# Altium schematic symbol library cm3588.SchLib: 1 symbol
Pins are listed as number, name and electrical type; pins without a type are passive.

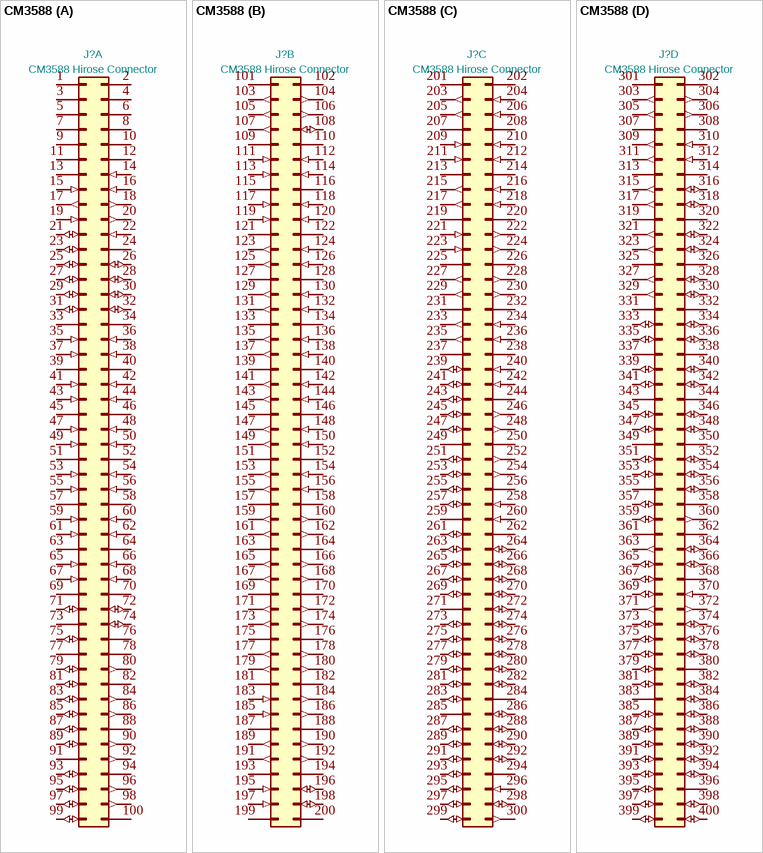
[diagram p0: symbol CM3588]

## CM3588
designator J?, comment CM3588 Hirose Connector
LCSC: C597931; Footprint: Library:CM3588; Value: CM3588 Hirose Connector
footprint CM3588
part A pins: 1 VDD_DCIN (power) "Power input (+5~+20V)", 2 VDD_DCIN (power) "Power input (+5~+20V)", 3 VDD_DCIN (power) "Power input (+5~+20V)", 4 VDD_DCIN (power) "Power input (+5~+20V)", 5 VDD_DCIN (power) "Power input (+5~+20V)", 6 VDD_DCIN (power) "Power input (+5~+20V)", 7 VDD_DCIN (power) "Power input (+5~+20V)", 8 VDD_DCIN (power) "Power input (+5~+20V)", 9 VDD_DCIN (power) "Power input (+5~+20V)", 10 VDD_DCIN (power) "Power input (+5~+20V)", 11 GND "Ground(0V)", 12 GND "Ground(0V)", 13 GND "Ground(0V)", 14 SARADC_VIN6_HW_ID2 (in) "SARADC VIN6, for Carrier Board ID Only", 15 BOOT_SARADC_IN0 (in) "Boot mode configuration. Pull low to  enter USB Maskrom Mode", 16 RESET_L (in) "RESET input to RK3588 and PMIC, low active, 1.8V signal", 17 PWRON_L (out) "Power Key Signal, Connect to  PowerKey, low active, 4V signal", 18 VDC_MODE (out) "Power-ON mode selection. Keep float: power up immediately after  VDD_DCIN is powered. Short to GND: power up after PowerKey is pressed", 19 PMIC_EXT_EN_OUT (in) "Control the power of carrier board,  high active, 4V signal", 20 UART2_TX_M0_DEBUG (out) "Debug UART TX, 3.3V signal", 21 GPIO2_C0 (io) "GPIO, 1.8V signal", 22 UART2_RX_M0_DEBUG (in) "Debug UART RX, 3.3V signal", 23 GPIO2_C1/MIPI_CAM2_RESET_L (io) "GPIO, 1.8V signal", 24 GND "Ground(0V)", 25 GPIO2_C2/MIPI_CAM2_PDN_L (io) "GPIO, 1.8V signal", 26 GPIO4_C2 (io) "GPIO, 1.8V signal", 27 GPIO2_C3 (io) "GPIO, 1.8V signal", 28 GPIO4_C3 (io) "GPIO, 1.8V signal", 29 GPIO2_C4 (io) "GPIO, 1.8V signal", 30 GPIO4_C4 (io) "GPIO, 1.8V signal", 31 GPIO4_C6 (io) "GPIO, 1.8V signal", 32 GPIO4_C5 (io) "GPIO, 1.8V signal", 33 GND (power) "Ground(0V)", 34 GND (power) "Ground(0V)", 35 MIPI_CSI1_RX_CLK1P (in) "MIPI DPHY CSI port1 clock1 positive  input", 36 MIPI_CSI0_RX_CLK1P (in) "MIPI DPHY CSI port0 clock1 positive input", 37 MIPI_CSI1_RX_CLK1N (in) "MIPI DPHY CSI port1 clock1 negative  input", 38 MIPI_CSI0_RX_CLK1N (in) "MIPI DPHY CSI port0 clock1 negative input", 39 GND "Ground(0V)", 40 GND "Ground(0V)", 41 MIPI_CSI1_RX_D3P (in) "MIPI DPHY CSI port1 D3 positive input", 42 MIPI_CSI0_RX_D3P (in) "MIPI DPHY CSI port0 D3 positive input", 43 MIPI_CSI1_RX_D3N (in) "MIPI DPHY CSI port1 D3 negative  input", 44 MIPI_CSI0_RX_D3N (in) "MIPI DPHY CSI port0 D3 negative input", 45 GND "Ground(0V)", 46 GND "Ground(0V)", 47 MIPI_CSI1_RX_D2P (in) "MIPI DPHY CSI port1 D2 positive input", 48 MIPI_CSI0_RX_D2P (in) "MIPI DPHY CSI port0 D2 positive input", 49 MIPI_CSI1_RX_D2N (in) "MIPI DPHY CSI port1 D2 negative  input", 50 MIPI_CSI0_RX_D2N (in) "MIPI DPHY CSI port0 D2 negative input", 51 GND "Ground(0V)", 52 GND "Ground(0V)", 53 MIPI_CSI1_RX_CLK0P (in) "MIPI DPHY CSI port1 clock0 positive  input", 54 MIPI_CSI0_RX_CLK0P (in) "MIPI DPHY CSI port0 clock0 positive input", 55 MIPI_CSI1_RX_CLK0N (in) "MIPI DPHY CSI port1 clock0 negative  input", 56 MIPI_CSI0_RX_CLK0N (in) "MIPI DPHY CSI port0 clock0 negative input", 57 GND "Ground(0V)", 58 GND "Ground(0V)", 59 MIPI_CSI1_RX_D1P (in) "MIPI DPHY CSI port1 D1 positive input", 60 MIPI_CSI0_RX_D1P (in) "MIPI DPHY CSI port0 D1 positive input", 61 MIPI_CSI1_RX_D1N (in) "MIPI DPHY CSI port1 D1 negative  input", 62 MIPI_CSI0_RX_D1N (in) "MIPI DPHY CSI port0 D1 negative input", 63 GND "Ground(0V)", 64 GND "Ground(0V)", 65 MIPI_CSI1_RX_D0P (in) "MIPI DPHY CSI port1 D0 positive input", 66 MIPI_CSI0_RX_D0P (in) "MIPI DPHY CSI port0 D0 positive input", 67 MIPI_CSI1_RX_D0N (in) "MIPI DPHY CSI port1 D0 negative  input", 68 MIPI_CSI0_RX_D0N (in) "MIPI DPHY CSI port0 D0 positive input  69", 69 GND "Ground(0V)", 70 GND "Ground(0V)", 71 GPIO1_B6 (io) "GPIO, 3.3V signal", 72 LED3_25GLAN_25GLED (io) "2.5Gbps ethernet LED signal, blinking when 2.5Gbps link is active, low  active", 73 GND "Ground(0V)", 74 LED2_25GLAN_1GLED (io) "2.5Gbps ethernet LED signal, blinking when 1Gbps link is active, low active", 75 GPIO1_B7 (io) "GPIO, 3.3V signal 76 GND", 76 GND "Ground(0V)", 77 GND "Ground(0V)", 78 P25G_MDIP0 "2.5Gbps ethernet MDI0 positive", 79 GPIO2_A6 (io) "GPIO, 1.8V signal", 80 P25G_MDIN0 (out) "2.5Gbps ethernet MDI0 negative", 81 GPIO2_A7 (io) "GPIO, 1.8V signal", 82 GND "Ground(0V)", 83 GPIO2_B0 (io) "GPIO, 1.8V signal", 84 P25G_MDIP1 (out) "2.5Gbps ethernet MDI1 positive", 85 GPIO2_B1 GPIO, (io) "GPIO, 1.8V signal", 86 P25G_MDIN1 (out) "2.5Gbps ethernet MDI1 negative", 87 GPIO2_B2 (io) "GPIO, 1.8V signal", 88 GND "Ground(0V)", 89 GPIO2_B3 (io) "GPIO, 1.8V signal", 90 P25G_MDIP2 (out) "2.5Gbps ethernet MDI2 positive", 91 GND "Ground(0V)", 92 P25G_MDIN2 (out) "2.5Gbps ethernet MDI2 negative", 93 GPIO2_B4 (io) "GPIO, 1.8V signal", 94 GND "Ground(0V)", 95 GPIO2_B5 (io) "GPIO, 1.8V signal", 96 P25G_MDIP3 (out) "2.5Gbps ethernet MDI3 positive", 97 GPIO2_B6 (io) "GPIO, 1.8V signal", 98 P25G_MDIN3 (out) "2.5Gbps ethernet MDI3 negative", 99 GPIO2_B7 (io) "GPIO, 1.8V signal", 100 GND "Ground(0V)"
part B pins: 101 RECOVERY "Connected to SARADC_IN1 which is used by bootloader, pull low to enter  Recovery/Loader mode, internally pulled up to 1.8V", 102 GND_AUDUO "Audio ground, Audio  signals(including HPR, HPL and  MIC_IN) return path", 103 HPR (out) "Headphone output Right channel", 104 HPL (out) "Headphone output Left channel", 105 I2C7_SDA_M0 (out) "I2C7 data, 1.8V signal, internally pulled up to 1.8V and also connected to  audio codec(ALC5616)", 106 MIC_IN (out) "Single-end mcirophone input,  internally pulled up to Bais power", 107 I2C7_SCL_M0 (out) "I2C7 clock, 1.8V signal, internally pulled up to 1.8V and also connected to audio codec(ALC5616)", 108 GPIO1_C4/HP_DET_L (io) "GPIO used as Headphone insert  detection input, internally pulled up  to 1.8V, low active", 109 GND "Ground(0V)", 110 GND "Ground(0V)", 111 MIPI_DPHY0_RX_D2P (in) "MIPI D/CPHY CSI port0 D2 positive input", 112 MIPI_DPHY0_RX_D3P (in) "MIPI D/CPHY CSI port0 D3 positive  input", 113 MIPI_DPHY0_RX_D2N (in) "MIPI D/CPHY CSI port0 D2 negative input", 114 MIPI_DPHY0_RX_D3N (in) "MIPI D/CPHY CSI port0 D3 negative  input", 115 GND "Ground(0V)", 116 GND "Ground(0V)", 117 MIPI_DPHY0_RX_D1P (in) "MIPI D/CPHY CSI port0 D1 positive input", 118 MIPI_DPHY0_RX_CLKP (in) "MIPI D/CPHY CSI port0 clock positive  input", 119 MIPI_DPHY0_RX_D1N (in) "MIPI D/CPHY CSI port0 D1 negative input", 120 MIPI_DPHY0_RX_CLKN (in) "MIPI D/CPHY CSI port0 clock  negative input", 121 GND "Ground(0V)", 122 GND "Ground(0V)", 123 MIPI_DPHY0_TX_D3P (out) "MIPI D/CPHY DSI port0 D3 positive output", 124 MIPI_DPHY0_RX_D0P (in) "MIPI D/CPHY CSI port0 D0 positive  input", 125 MIPI_DPHY0_TX_D3N (out) "MIPI D/CPHY DSI port0 D3 negative output", 126 MIPI_DPHY0_RX_D0N (in) "MIPI D/CPHY CSI port0 D0 negative  input", 127 GND "Ground(0V)", 128 GND "Ground(0V)", 129 MIPI_DPHY0_TX_D2P (out) "MIPI D/CPHY DSI port0 D2 positive output", 130 MIPI_DPHY1_RX_D3P (in) "MIPI D/CPHY CSI port1 D3 positive  input", 131 MIPI_DPHY0_TX_D2N (out) "MIPI D/CPHY DSI port0 D2 negative output", 132 MIPI_DPHY1_RX_D3N (in) "MIPI D/CPHY CSI port1 D3 negative  input", 133 GND "Ground(0V)", 134 GND "Ground(0V)", 135 MIPI_DPHY0_TX_CLKP (out) "MIPI D/CPHY DSI port0 clock positive output", 136 MIPI_DPHY1_RX_D2P (in) "MIPI D/CPHY CSI port1 D2 positive  input", 137 MIPI_DPHY0_TX_CLKN (out) "MIPI D/CPHY DSI port0 clock negative output", 138 MIPI_DPHY1_RX_D2N (in) "MIPI D/CPHY CSI port1 D2 negative  input", 139 GND "Ground(0V)", 140 GND "Ground(0V)", 141 MIPI_DPHY0_TX_D1P (out) "MIPI D/CPHY DSI port0 D1 positive output", 142 MIPI_DPHY1_RX_CLKP (in) "MIPI D/CPHY CSI port1 clock positive  input", 143 MIPI_DPHY0_TX_D1N (out) "MIPI D/CPHY DSI port0 D1 negative output", 144 MIPI_DPHY1_RX_CLKN (in) "MIPI D/CPHY CSI port1 clock  negative input", 145 GND "Ground(0V)", 146 GND "Ground(0V)", 147 MIPI_DPHY0_TX_D0P (out) "MIPI D/CPHY DSI port0 D0 positive output", 148 MIPI_DPHY1_RX_D1P (in) "MIPI D/CPHY CSI port1 D1 positive  input", 149 MIPI_DPHY0_TX_D0N (out) "MIPI D/CPHY DSI port0 D0 negative output", 150 MIPI_DPHY1_RX_D1N (in) "MIPI D/CPHY CSI port1 D1 negative  input", 151 GND "Ground(0V)", 152 GND "Ground(0V)", 153 TYPEC0_SSTX2P (out) "USB 3.0 OTG TX2 positive/DP1.4 Alt of TYPEC0, AC coupling capacitor  included on CM3588", 154 MIPI_DPHY1_RX_D0P (in) "MIPI D/CPHY CSI port1 D0 positive  input", 155 TYPEC0_SSTX2N (out) "USB 3.0 OTG TX2 negative/DP1.4 Alt of TYPEC0, AC coupling capacitor  included on CM3588", 156 MIPI_DPHY1_RX_D0N (in) "MIPI D/CPHY CSI port1 D0 negative  input", 157 GND "Ground(0V)", 158 GND "Ground(0V)", 159 TYPEC0_SSRX2P (out) "USB 3.0 OTG RX2 positive/DP1.4 Alt of TYPEC0, external AC coupling  capacitor required", 160 MIPI_DPHY1_TX_D3P (out) "MIPI D/CPHY DSI port1 D3 positive  output", 161 TYPEC0_SSRX2N (out) "USB 3.0 OTG RX2 negative/DP1.4 Alt of TYPEC0, external AC coupling  capacitor required", 162 MIPI_DPHY1_TX_D3N (out) "MIPI D/CPHY DSI port1 D3 negative  output", 163 GND "Ground(0V)", 164 GND "Ground(0V)", 165 TYPEC0_SSTX1P (out) "USB 3.0 OTG TX1 positive/DP1.4 Alt of TYPEC0, AC coupling capacitor  included on CM3588", 166 MIPI_DPHY1_TX_D2P (out) "MIPI D/CPHY DSI port1 D2 positive  output", 167 TYPEC0_SSTX1N (out) "USB 3.0 OTG TX1 negative/DP1.4 Alt of TYPEC0, AC coupling capacitor  included on CM3588", 168 MIPI_DPHY1_TX_D2N (out) "MIPI D/CPHY DSI port1 D2 negative  output", 169 GND "Ground(0V)", 170 GND "Ground(0V)", 171 TYPEC0_SSRX1P (out) "USB 3.0 OTG RX1 positive/DP1.4 Alt of TYPEC0, external AC coupling  capacitor required", 172 MIPI_DPHY1_TX_CLKP (out) "MIPI D/CPHY DSI port1 clock positive  output", 173 TYPEC0_SSRX1N (out) "USB 3.0 OTG RX1 negative/DP1.4 Alt of TYPEC0, external AC coupling  capacitor required", 174 MIPI_DPHY1_TX_CLKN (out) "MIPI D/CPHY DSI port1 clock  negative output", 175 GND "Ground(0V)", 176 GND "Ground(0V)", 177 TYPEC1_SSTX2P (out) "USB 3.0 OTG TX2 positive/DP1.4 Alt of TYPEC1, AC coupling capacitor  included on CM3588", 178 MIPI_DPHY1_TX_D1P (out) "MIPI D/CPHY DSI port1 D1 positive  output", 179 TYPEC1_SSTX2N (out) "USB 3.0 OTG TX2 negative/DP1.4 Alt of TYPEC1, AC coupling capacitor  included on CM3588", 180 MIPI_DPHY1_TX_D1N (out) "MIPI D/CPHY DSI port1 D1 negative  output", 181 GND "Ground(0V)", 182 GND "Ground(0V)", 183 TYPEC1_SSRX2P (in) "USB 3.0 OTG RX2 positive/DP1.4 Alt of TYPEC1, external AC coupling  capacitor required", 184 MIPI_DPHY1_TX_D0P (out) "MIPI D/CPHY DSI port1 D0 positive  output", 185 TYPEC1_SSRX2N (in) "USB 3.0 OTG RX2 negative/DP1.4 Alt of TYPEC1, external AC coupling  capacitor required", 186 MIPI_DPHY1_TX_D0N (out) "MIPI D/CPHY DSI port1 D0 negative  output", 187 GND "Ground(0V)", 188 GND "Ground(0V)", 189 TYPEC1_SSTX1P (out) "USB 3.0 OTG TX1 positive/DP1.4 Alt of TYPEC1, AC coupling capacitor  included on CM3588", 190 TYPEC0_OTG_DP (out) "USB 2.0 OTG DP of TYPEC0", 191 TYPEC1_SSTX1N (out) "USB 3.0 OTG TX1 negative/DP1.4 Alt of TYPEC1, AC coupling capacitor  included on CM3588", 192 TYPEC0_OTG_DM (out) "USB 2.0 OTG DM of TYPEC0", 193 GND "Ground(0V)", 194 GND "Ground(0V)", 195 TYPEC1_SSRX1P (in) "USB 3.0 OTG RX1 positive/DP1.4 Alt of TYPEC1, external AC coupling  capacitor required", 196 TYPEC1_OTG_DP (io) "USB 2.0 OTG DP of TYPEC1", 197 TYPEC1_SSRX1N (in) "USB 3.0 OTG RX1 negative/DP1.4 Alt of TYPEC1, external AC coupling  capacitor required", 198 TYPEC1_OTG_DM (io) "USB 2.0 OTG DM of TYPEC1", 199 GND "Ground(0V)", 200 GND "Ground(0V)"
part C pins: 201 GND "Ground(0V)", 202 GND "Ground(0V)", 203 PCIE20_1_TXP/SATA30_1_TXP (out) "PCIe2.0/SATA3.0 Combo PHY1 output positive, AC  coupling capacitor included on CM3588", 204 PCIE30_PORT0_RX0P (in) "PCIe 3.0 PHY0 Lane0 input  positive, external AC  coupling capacitor required", 205 PCIE20_1_TXN/SATA30_1_TXN (out) "PCIe2.0/SATA3.0 Combo PHY1 output negative, AC  coupling capacitor included on CM3588", 206 PCIE30_PORT0_RX0N (in) "PCIe 3.0 PHY0 Lane0 input  negative, external AC  coupling capacitor required", 207 GND "Ground(0V)", 208 GND "Ground(0V)", 209 PCIE20_1_RXP/SATA30_1_RXP (in) "PCIe2.0/SATA3.0 Combo PHY1 input positive, external  AC coupling capacitor required", 210 PCIE30_PORT0_RX1P (in) "PCIe 3.0 PHY0 Lane1 input  positive, external AC  coupling capacitor required", 211 PCPIE20_1_RXN/SATA30_1_RXN (in) "PCIe2.0/SATA3.0 Combo PHY1 input negative,  external AC coupling capacitor required", 212 PCIE30_PORT0_RX1N (in) "PCIe 3.0 PHY0 Lane1 input  negative, external AC  coupling capacitor required", 213 GND "Ground(0V)", 214 GND "Ground(0V)", 215 PCIE20_1_REFCLKP (out) "PCIe2.0/SATA3.0 Combo PHY1 PCIe 2.0 refclk output  positive", 216 PCIE30_PORT0_REFCLKP_IN (in) "PCIe 3.0 PHY0 refclk input  positive", 217 PCIE20_1_REFCLKN (out) "PCIe2.0/SATA3.0 Combo PHY1 PCIe 2.0 refclk output  negative", 218 PCIE30_PORT0_REFCLKN_IN (in) "PCIe 3.0 PHY0 refclk input  negative", 219 GND "Ground(0V)", 220 GND "Ground(0V)", 221 PCIE20_2_RXP/SATA30_2_RXP/USB30_2_SSRXP (in) "PCIe2.0/SATA3.0/USB3.0 HOST Combo PHY2 input  positive, external AC coupling capacitor required", 222 PCIE30_PORT0_TX0P (out) "PCIe 3.0 PHY0 Lane0 output  positive, AC coupling  capacitor included on  CM3588", 223 PCIE20_2_RXN/SATA30_2_RXN/USB30_2_SSRXN (in) "PCIe2.0/SATA3.0/USB3.0 HOST Combo PHY2 input  negative, external AC coupling capacitor required", 224 PCIE30_PORT0_TX0N (out) "PCIe 3.0 PHY0 Lane0 output  negative, AC coupling  capacitor included on  CM3588", 225 GND "Ground(0V)", 226 GND "Ground(0V)", 227 PCIE20_2_REFCLKP (out) "PCIe2.0/SATA3.0/USB3.0 HOST Combo PHY2 PCIe 2.0  refclk output positive", 228 PCIE30_PORT0_TX1P (out) "PCIe 3.0 PHY0 Lane1 output  positive, AC coupling  capacitor included on  CM3588", 229 PCIE20_2_REFCLKN (out) "PCIe2.0/SATA3.0/USB3.0 HOST Combo PHY2 PCIe 2.0  refclk output negative", 230 PCIE30_PORT0_TX1N (out) "PCIe 3.0 PHY0 Lane1 output  negative, AC coupling  capacitor included on  CM3588", 231 GND "Ground(0V)", 232 GND "Ground(0V)", 233 PCIE20_2_TXP/SATA30_2_TXP/USB30_2_SSTXP (out) "PCIe2.0/SATA3.0/USB3.0 HOST Combo PHY2 output  positive, AC coupling capacitor included on CM3588", 234 PCIE30_PORT1_RX2P (in) "PCIe 3.0 PHY1 Lane0 input  positive, external AC  coupling capacitor required", 235 PCIE20_2_TXN/SATA30_2_TXN/USB30_2_SSTXN (out) "PCIe2.0/SATA3.0/USB3.0 HOST Combo PHY2 output  negative, AC coupling capacitor included on CM3588", 236 PCIE30_PORT1_RX2N (in) "PCIe 3.0 PHY1 Lane0 input  negative, external AC  coupling capacitor required", 237 GND "Ground(0V)", 238 GND "Ground(0V)", 239 GPIO1_D2 (io) "GPIO, 1.8V signal", 240 PCIE30_PORT1_RX3P (in) "PCIe 3.0 PHY1 Lane1 input  positive, external AC  coupling capacitor required", 241 GPIO1_D3 (io) "GPIO, 1.8V signal", 242 PCIE30_PORT1_RX3N (in) "PCIe 3.0 PHY1 Lane1 input  negative, external AC  coupling capacitor required", 243 GPIO1_C1 (io) "GPIO, 1.8V signal", 244 GND "Ground(0V)", 245 GPIO1_C0 (io) "GPIO, 1.8V signal", 246 PCIE30_PORT1_TX2P (out) "PCIe 3.0 PHY1 Lane0 output  positive, AC coupling  capacitor included on", 247 GPIO0_B2 (io) "GPIO, 1.8V signal", 248 PCIE30_PORT1_TX2N (out) "PCIe 3.0 PHY1 Lane0 output  negative, AC coupling  capacitor included on  CM3588", 249 GND "Ground(0V)", 250 GND "Ground(0V)", 251 GPIO4_A0 (io) "GPIO, 3.3V signal", 252 PCIE30_PORT1_TX3P (out) "PCIe 3.0 PHY1 Lane1 output  positive, AC coupling  capacitor included on  CM3588", 253 GPIO4_A1 (io) "GPIO, 3.3V signal", 254 PCIE30_PORT1_TX3N (out) "PCIe 3.0 PHY1 Lane1 output  negative, AC coupling  capacitor included on  CM3588", 255 GPIO4_A2 (io) "GPIO, 3.3V signal", 256 GND "Ground(0V)", 257 GPIO4_A3 (io) "GPIO, 3.3V signal", 258 PCIE30_PORT1_REFCLKP_IN (in) "PCIe 3.0 PHY1 refclk input  positive", 259 GND "Ground(0V)", 260 PCIE30_PORT1_REFCLKN_IN (in) "PCIe 3.0 PHY1 refclk input  negative", 261 GPIO4_B0 (io) "GPIO, 3.3V signal", 262 GND "Ground(0V)", 263 GPIO4_B3 (io) "GPIO, 3.3V signal", 264 GPIO0_D3 (io) "GPIO, 3.3V signal", 265 GPIO4_B4 (io) "GPIO, 3.3V signal", 266 GPIO0_D4 (io) "GPIO, 3.3V signal", 267 GPIO4_B5 (io) "GPIO, 3.3V signal", 268 GPIO0_D5 (io) "GPIO, 3.3V signal", 269 GPIO4_B6 (io) "GPIO, 3.3V signal", 270 GPIO0_C4 (io) "GPIO, 3.3V signal", 271 GND "Ground(0V)", 272 GPIO0_C5 (io) "GPIO, 3.3V signal", 273 GPIO1_A0 (io) "GPIO, 3.3V signal", 274 GPIO0_C6 (io) "GPIO, 3.3V signal", 275 GPIO1_A1 (io) "GPIO, 3.3V signal", 276 GPIO1_B0 (io) "GPIO, 3.3V signal", 277 GPIO1_A2 (io) "GPIO, 3.3V signal", 278 GPIO1_B1 (io) "GPIO, 3.3V signal", 279 GPIO1_A3 (io) "GPIO, 3.3V signal", 280 GPIO1_B2 (io) "GPIO, 3.3V signal", 281 GPIO1_A4 (io) "GPIO, 3.3V signal", 282 GPIO1_B3 (io) "GPIO, 3.3V signal", 283 GPIO1_A7 (io) "GPIO, 3.3V signal", 284 GND "Ground(0V)", 285 GND "Ground(0V)", 286 GPIO1_D6 (io) "GPIO, 3.3V signal", 287 GPIO3_C0 (io) "GPIO, 3.3V signal", 288 GPIO1_D7 (io) "GPIO, 3.3V signal", 289 GPIO3_C1 (io) "GPIO, 3.3V signal", 290 GPIO1_B4 (io) "GPIO, 3.3V signal", 291 GPIO3_C2 (io) "GPIO, 3.3V signal", 292 GPIO1_B5 (io) "GPIO, 3.3V signal", 293 GPIO3_C3 (io) "GPIO, 3.3V signal", 294 GND "Ground(0V)", 295 HDMITX0_HPDIN_M0 (io) "HDMI TX0 hot plug detect input, high active, 3.3V  signal", 296 I2C6_SCL_M0 (in) "I2C6 clock, 3.3V signal,  internally pulled up to 3.3V  and also connected to RTC  IC(HYM8563TS)", 297 HDMITX1_HPDIN_M0 (io) "HDMI TX1 hot plug detect input, high active, 3.3V  signal", 298 I2C6_SDA_M0 (io) "I2C6 data, 3.3V signal,  internally pulled up to 3.3V  and also connected to RTC  IC(HYM8563TS)", 299 GPIO1_D5/HDMIIRX_DET_L (io) "HDMI RX hot plug detect input, low active, 1.8V  signal", 300 VBAT_RTC (out) "RTC IC(HYM8563TS) backup  battery input, typically a 3V  coin cell"
part D pins: 301 GND "Ground(0V)", 302 GND "Ground(0V)", 303 HDMI1_TX2P_PORT (out) "HDMI2.1/eDP TX Port1 D2P, AC coupling capacitor included on  CM3588", 304 TYPEC0_SBU1_OUT (out) "USB 3.0 OTG/DP1.4 Alt of TYPEC0  SBU1/AUXP , AC coupling capacitor  included on CM3588, connect directly to  type-c connector", 305 HDMI1_TX2N_PORT (out) "HDMI2.1/eDP TX Port1 D2N, AC coupling capacitor included on  CM3588", 306 TYPEC0_SBU2_OUT (out) "USB 3.0 OTG/DP1.4 Alt of TYPEC0  SBU2/AUXN , AC coupling capacitor  included on CM3588, connect directly to  type-c connector", 307 GND "Ground(0V)", 308 GND "Ground(0V)", 309 HDMI1_TX1P_PORT (out) "HDMI2.1/eDP TX Port1 D1P, AC coupling capacitor included on  CM3588", 310 TYPEC1_SBU1 (in) "USB 3.0 OTG/DP1.4 Alt of TYPEC1  SBU1/AUXP , AC coupling capacitor  included on CM3588", 311 HDMI1_TX1N_PORT (out) "HDMI2.1/eDP TX Port1 D1N, AC coupling capacitor included on  CM3588", 312 TYPEC1_SBU2 (in) "USB 3.0 OTG/DP1.4 Alt of TYPEC1  SBU2/AUXN , AC coupling capacitor  included on CM3588", 313 GND "Ground(0V)", 314 GND "Ground(0V)", 315 HDMI1_TX0P_PORT (out) "HDMI2.1/eDP TX Port1 D0P, AC coupling capacitor included on  CM3588", 316 USB20_HOST1_DP (io) "USB 2.0 HOST1 DP", 317 HDMI1_TX0N_PORT (out) "HDMI2.1/eDP TX Port1 D0N, AC coupling capacitor included on  CM3588", 318 USB20_HOST1_DM (io) "USB 2.0 HOST1 DM", 319 GND "Ground(0V)", 320 GND "Ground(0V)", 321 HDMI1_TX3P_PORT (out) "HDMI2.1/eDP TX Port1 D3P, AC coupling capacitor included on  CM3588", 322 USB20_HOST0_DP (io) "USB 2.0 HOST0 DP", 323 HDMI1_TX3N_PORT (out) "HDMI2.1/eDP TX Port1 D3N, AC coupling capacitor included on  CM3588", 324 USB20_HOST0_DM (io) "USB 2.0 HOST0 DM", 325 GND "Ground(0V)", 326 GND "Ground(0V)", 327 HDMI1_TX_SBDP (out) "HDMI2.1/eDP TX Port1 SBDP/AUXP, AC coupling capacitor included  on CM3588", 328 HDMI_RX_D2P_PORT (io) "HDMI RX D2P, 2.2R resistor included on  CM3588", 329 HDMI1_TX_SBDN (out) "HDMI2.1/eDP TX Port1 SBDN/AUXN, AC coupling capacitor included  on CM3588", 330 HDMI_RX_D2N_PORT (io) "HDMI RX D2N, 2.2R resistor included on  CM3588", 331 GND "Ground(0V)", 332 GND "Ground(0V)", 333 HDMI0_TX2P_PORT (io) "HDMI2.1/eDP TX Port0 D2P, AC coupling capacitor included on  CM3588", 334 HDMI_RX_D1P_PORT (io) "HDMI RX D1P, 2.2R resistor included on  CM3588", 335 HDMI0_TX2N_PORT (io) "HDMI2.1/eDP TX Port0 D2N, AC coupling capacitor included on  CM3588", 336 HDMI_RX_D1N_PORT (io) "HDMI RX D1N, 2.2R resistor included on  CM3588", 337 GND "Ground(0V)", 338 GND "Ground(0V)", 339 HDMI0_TX1P_PORT (io) "HDMI2.1/eDP TX Port0 D1P, AC coupling capacitor included on  CM3588", 340 HDMI_RX_D0P_PORT (io) "HDMI RX D0P, 2.2R resistor included on  CM3588", 341 HDMI0_TX1N_PORT (io) "HDMI2.1/eDP TX Port0 D1N, AC coupling capacitor included on  CM3588", 342 HDMI_RX_D0N_PORT (io) "HDMI RX D0N, 2.2R resistor included on  CM3588", 343 GND "Ground(0V)", 344 GND "Ground(0V)", 345 HDMI0_TX0P_PORT (io) "HDMI2.1/eDP TX Port0 D0P, AC coupling capacitor included on  CM3588", 346 HDMI_RX_CLKP_PORT (io) "HDMI RX CLKP, 2.2R resistor included on  CM3588", 347 HDMI0_TX0N_PORT (io) "HDMI2.1/eDP TX Port0 D0N, AC coupling capacitor included on  CM3588", 348 HDMI_RX_CLKN_PORT (io) "HDMI RX CLKN, 2.2R resistor included on  CM3588", 349 GND "Ground(0V)", 350 GND "Ground(0V)", 351 HDMI0_TX3P_PORT (io) "HDMI2.1/eDP TX Port0 D3P, AC coupling capacitor included on  CM3588", 352 SDMMC0_D2 (io) "SDMMC0, SD card D2, connect directly to  card slot pin", 353 HDMI0_TX3N_PORT (io) "HDMI2.1/eDP TX Port0 D3N, AC coupling capacitor included on  CM3588", 354 SDMMC0_D3 (io) "SDMMC0, SD card D3, connect directly to  card slot pin", 355 GND "Ground(0V)", 356 SDMMC0_CMD (io) "SDMMC0, SD card CMD, connect directly  to card slot pin", 357 HDMI0_TX_SBDP (io) "HDMI2.1/eDP TX Port0 SBDP/AUXP, AC coupling capacitor included  on CM3588", 358 VCC3V3_SD_S0 (power) "3.3V power out for SDMMC0 SD card,  300mA Max, connect directly to card slot  pin", 359 HDMI0_TX_SBDN (io) "HDMI2.1/eDP TX Port0 SBDN/AUXN, AC coupling capacitor included  on CM3588", 360 SD_CLK (out) "SDMMC0, SD card CLK, 22R resistor  included on CM3588, connect directly to  card slot pin", 361 GND "Ground(0V)", 362 GND "Ground(0V)", 363 HDMITX0_SCL_M0 (out) "HDMI2.1 TX Port0 DDC clock, 3.3V signal", 364 SDMMC0_D0 (io) "SDMMC0, SD card D0, connect directly to  card slot pin", 365 HDMITX0_SDA_M0 (io) "HDMI2.1 TX Port0 DDC data input and output, 3.3V signal", 366 SDMMC0_D1 (io) "SDMMC0, SD card D1, connect directly to  card slot pin", 367 HDMITX0_CEC_M0 (io) "HDMI2.1 TX Port0 CEC signal, 3.3V signal", 368 GND "Ground(0V)", 369 HDMI0_TX_ON_H (io) "HDMI2.1 TX Port0, HDMI mode configuration output signal, 3.3V  signal; Working in HDMI2.1 mode, it Outputs low level, otherwise  high level", 370 GPIO0_A4/SDMMC_DET_L (in) "SDMMC0, card insert detect input, low  active, 1.8V signal, connect directly to card  slot pin", 371 HDMITX1_SCL_M1 (out) "HDMI2.1 TX Port1 DDC clock, 3.3V signal", 372 HDMI_RX_SCL_M1 (out) "HDMI RX DDC clock, 3.3V signal", 373 HDMITX1_SDA_M1 (io) "HDMI2.1 TX Port1 DDC data input and output, 3.3V signal", 374 HDMI_RX_SDA_M1 (io) "HDMI RX DDC data input and output, 3.3V  signal", 375 HDMITX1_CEC_M2 (io) "HDMI2.1 TX Port1 CEC signal, 3.3V signal", 376 HDMI_RX_CEC (io) "HDMI RX CEC signal, 3.3V signal", 377 HDMI1_TX_ON_H (io) "HDMI2.1 TX Port1, HDMI mode configuration output signal, 3.3V  signal; Working in HDMI2.1 mode, it outputs low level, otherwise  high level", 378 HDMIIRX_HPDOUT_H (io) "HDMI RX HPD output, high active, 3.3V  signal", 379 GPIO3_D0 (io) "GPIO, 3.3V signal", 380 GND "Ground(0V)", 381 GPIO3_C7 (io) "GPIO, 3.3V signal", 382 GPIO3_B0 (io) "GPIO, 3.3V signal", 383 GND "Ground(0V)", 384 GPIO3_B1 (io) "GPIO, 3.3V signal", 385 GPIO3_D5 (io) "GPIO, 3.3V signal", 386 GPIO3_B2 (io) "GPIO, 3.3V signal", 387 GPIO3_A0 (io) "GPIO, 3.3V signal", 388 GPIO3_B3 (io) "GPIO, 3.3V signal", 389 GPIO3_A1 (io) "GPIO, 3.3V signal", 390 GPIO3_B4 (io) "GPIO, 3.3V signal", 391 GPIO3_A2 (io) "GPIO, 3.3V signal", 392 GPIO3_B5 (io) "GPIO, 3.3V signal", 393 GPIO3_A3 (io) "GPIO, 3.3V signal", 394 GPIO3_B6 (io) "GPIO, 3.3V signal", 395 GPIO3_A4 (io) "GPIO, 3.3V signal", 396 GND "Ground(0V)", 397 GPIO3_A5 (io) "GPIO, 3.3V signal", 398 GPIO3_B7 (io) "GPIO, 3.3V signal", 399 GPIO3_A6 (io) "GPIO, 3.3V signal", 400 GPIO3_A7 (io) "GPIO, 3.3V signal"